# EAGLE library part DIP-BLACK-MALE-HEADER(2X13P-2.54) (library Seeed-OPL-Connector)
320020092
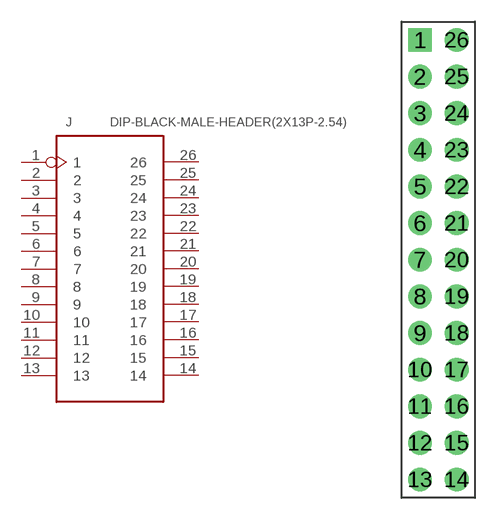
[diagram p121: symbol with the pads of H2X13-2.54; footprint H2X13-2.54]

Designator prefix J

## DIP-BLACK-MALE-HEADER(2X13P-2.54) (MPN: P125-1226A0AS116A1; VALUE: 2x13p-2.54)  [H2X13-2.54]
1  1
2  2
3  3
4  4
5  5
6  6
7  7
8  8
9  9
10  10
11  11
12  12
13  13
14  14
15  15
16  16
17  17
18  18
19  19
20  20
21  21
22  22
23  23
24  24
25  25
26  26

## Footprint H2X13-2.54 (pad centres in mm)
drill 0.889 pad 1.651 square: 1 -1.27,15.24
drill 0.889 pad 1.651: 2 -1.27,12.7; 3 -1.27,10.16; 4 -1.27,7.62; 5 -1.27,5.08; 6 -1.27,2.54; 7 -1.27,0; 8 -1.27,-2.54; 9 -1.27,-5.08; 10 -1.27,-7.62; 11 -1.27,-10.16; 12 -1.27,-12.7; 13 -1.27,-15.24; 14 1.27,-15.24; 15 1.27,-12.7; 16 1.27,-10.16; 17 1.27,-7.62; 18 1.27,-5.08; 19 1.27,-2.54; 20 1.27,0; 21 1.27,2.54; 22 1.27,5.08; 23 1.27,7.62; 24 1.27,10.16; 25 1.27,12.7; 26 1.27,15.24